# Altium footprint library SHDR6W80P0X381_1X6_2365X920X720P.PcbLib: 1 footprints
Each footprint in its own frame and in the unit in brackets; x right, y up, seen from the top. Pads: shape width x height; smd on the part's side, far side on the other; paste and mask are expansions set on the pad; w line width, h text height; cw(c..) or ccw(c..) is an arc to the next point about the centre after c.
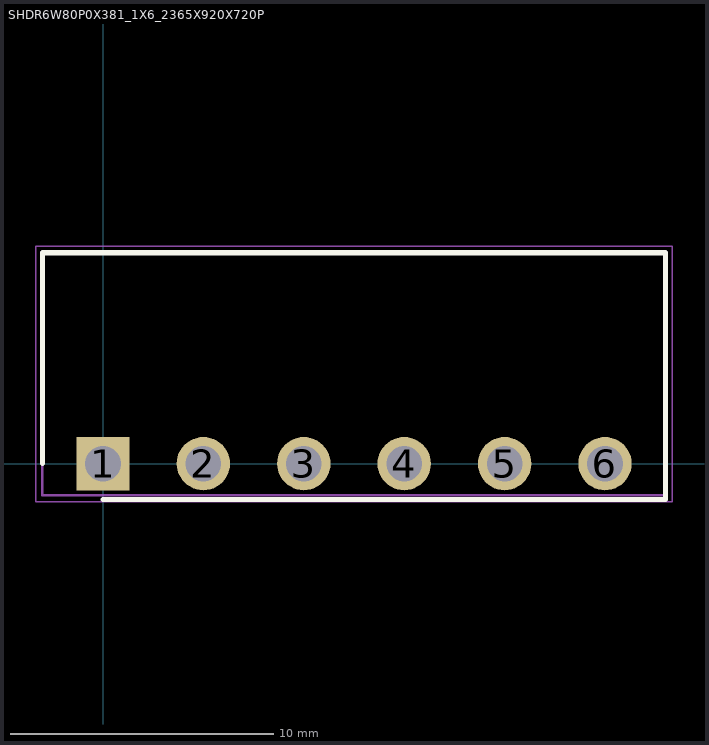
[diagram p0: the footprint, top view; thin cyan lines are the x and y axes]

## SHDR6W80P0X381_1X6_2365X920X720P [mm]
pads (6):
  rect 2.025x2.025 / inner round 2.025 / far side rect 2.025x2.025 hole 1.35: 1(0,0)
  round 2.025 hole 1.35: 2(3.81,0) 3(7.62,0) 4(11.43,0) 5(15.24,0) 6(19.05,0)
Top Overlay:
  lines w0.2: -2.3,0 -2.3,8 21.35,8 21.35,-1.362 0,-1.362
Mechanical 15:
  lines w0.1: -2.3,-1.2 -2.3,8 21.35,8 21.35,-1.2 -2.3,-1.2
Mechanical 20:
  lines w0.05: -2.55,-1.45 -2.55,8.25 21.6,8.25 21.6,-1.45 -2.55,-1.45